# Altium integrated library Capacitor - Aluminium TH.IntLib: 4591 symbols (part 10 of 68)
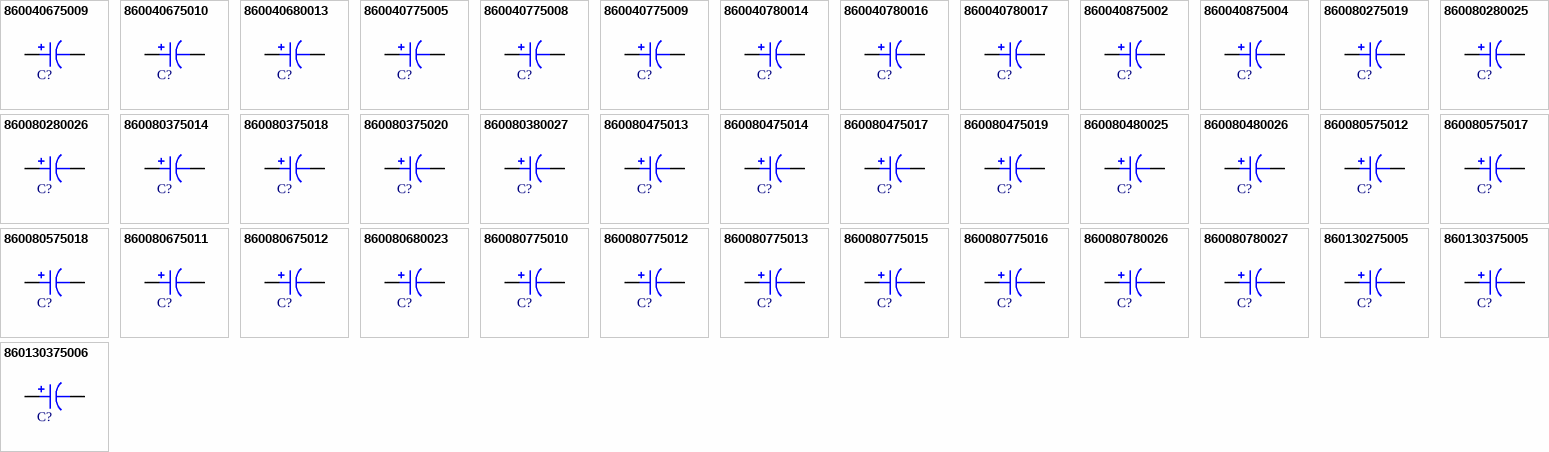
[diagram p123: symbols 860040675009 to 860130375006]

## 860080375020
designator C?, comment 1200uF  (value not drawn)
CAP ALUM 1200UF 20% 16V T/H; Part Number: 860080375020; Manufacturer: Wurth Electronics Inc; TemperatureRange: -55C ~ 105C; Type: Polar; Ripple Current: 1.92A @ 100kHz; Impedance: 32 mOhm; Value: 1200uF; PartId: 26032; Supplier 1: Digi-Key; Supplier Part Number 1: 732-9008-3-ND; ComponentLink1Description: Datasheet; ComponentLink1URL: http://katalog.we-online.de/pbs/datasheet/860080375020.pdf; ComponentLink2Description: Digi-Key Listing; ComponentLink2URL: https://www.digikey.com/product-detail/en/wurth-electronics-inc/860080375020/732-9008-3-ND/5727243; Tolerance: 20%; Voltage: 16V; Price: 0.4485; Device Package: Radial, Can, 10mm
footprint CAP AL TH D10 L5 H30
pins: 1, 2

## 860080380027
designator C?, comment 3900uF  (value not drawn)
CAP ALUM 3900UF 20% 16V T/H; Part Number: 860080380027; Manufacturer: Wurth Electronics Inc; TemperatureRange: -55C ~ 105C; Type: Polar; Ripple Current: 3.52A @ 100kHz; Impedance: 18 mOhm; Value: 3900uF; PartId: 26617; Supplier 1: Digi-Key; Supplier Part Number 1: 732-9015-3-ND; ComponentLink1Description: Datasheet; ComponentLink1URL: http://katalog.we-online.de/pbs/datasheet/860080380027.pdf; ComponentLink2Description: Digi-Key Listing; ComponentLink2URL: https://www.digikey.com/product-detail/en/wurth-electronics-inc/860080380027/732-9015-3-ND/5727250; Tolerance: 20%; Voltage: 16V; Price: 1.4025; Device Package: Radial, Can, 16mm
footprint CAP AL TH D16 L7.5 H26.5
pins: 1, 2

## 860080475013
designator C?, comment 330uF  (value not drawn)
CAP ALUM 330UF 20% 25V THRU HOLE; Part Number: 860080475013; Manufacturer: Wurth Electronics Inc; TemperatureRange: -55C ~ 105C; Type: Polar; Ripple Current: 1.01A @ 100kHz; Impedance: 54 mOhm; Value: 330uF; PartId: 24789; Supplier 1: Digi-Key; Supplier Part Number 1: 732-9029-1-ND; ComponentLink1Description: Datasheet; ComponentLink1URL: http://katalog.we-online.de/pbs/datasheet/860080475013.pdf; ComponentLink2Description: Digi-Key Listing; ComponentLink2URL: https://www.digikey.com/product-detail/en/wurth-electronics-inc/860080475013/732-9029-1-ND/5728972; Tolerance: 20%; Voltage: 25V; Price: 0.44; Device Package: Radial, Can, 10mm
footprint CAP AL TH D10 L5 H14.5
pins: 1, 2

## 860080475014
designator C?, comment 390uF  (value not drawn)
CAP ALUM 390UF 20% 25V THRU HOLE; Part Number: 860080475014; Manufacturer: Wurth Electronics Inc; TemperatureRange: -55C ~ 105C; Type: Polar; Ripple Current: 1.05A @ 100kHz; Impedance: 51 mOhm; Value: 390uF; PartId: 24662; Supplier 1: Digi-Key; Supplier Part Number 1: 732-9030-3-ND; ComponentLink1Description: Datasheet; ComponentLink1URL: http://katalog.we-online.de/pbs/datasheet/860080475014.pdf; ComponentLink2Description: Digi-Key Listing; ComponentLink2URL: https://www.digikey.com/product-detail/en/wurth-electronics-inc/860080475014/732-9030-3-ND/5727265; Tolerance: 20%; Voltage: 25V; Price: 0.2721; Device Package: Radial, Can, 10mm
footprint CAP AL TH D10 L5 H14.5
pins: 1, 2

## 860080475017
designator C?, comment 560uF  (value not drawn)
CAP ALUM 560UF 20% 25V THRU HOLE; Part Number: 860080475017; Manufacturer: Wurth Electronics Inc; TemperatureRange: -55C ~ 105C; Type: Polar; Ripple Current: 1.45A @ 100kHz; Impedance: 40 mOhm; Value: 560uF; PartId: 25487; Supplier 1: Digi-Key; Supplier Part Number 1: 732-9033-3-ND; ComponentLink1Description: Datasheet; ComponentLink1URL: http://katalog.we-online.de/pbs/datasheet/860080475017.pdf; ComponentLink2Description: Digi-Key Listing; ComponentLink2URL: https://www.digikey.com/product-detail/en/wurth-electronics-inc/860080475017/732-9033-3-ND/5727268; Tolerance: 20%; Voltage: 25V; Price: 0.3528; Device Package: Radial, Can, 10mm
footprint CAP AL TH D10 L5 H22
pins: 1, 2

## 860080475019
designator C?, comment 820uF  (value not drawn)
CAP ALUM 820UF 20% 25V THRU HOLE; Part Number: 860080475019; Manufacturer: Wurth Electronics Inc; TemperatureRange: -55C ~ 105C; Type: Polar; Ripple Current: 1.91A @ 100kHz; Impedance: 32 mOhm; Value: 820uF; PartId: 26036; Supplier 1: Digi-Key; Supplier Part Number 1: 732-9035-3-ND; ComponentLink1Description: Datasheet; ComponentLink1URL: http://katalog.we-online.de/pbs/datasheet/860080475019.pdf; ComponentLink2Description: Digi-Key Listing; ComponentLink2URL: https://www.digikey.com/product-detail/en/wurth-electronics-inc/860080475019/732-9035-3-ND/5727270; Tolerance: 20%; Voltage: 25V; Price: 0.4687; Device Package: Radial, Can, 10mm
footprint CAP AL TH D10 L5 H30
pins: 1, 2

## 860080480025
designator C?, comment 2700uF  (value not drawn)
CAP ALUM 2700UF 20% 25V T/H; Part Number: 860080480025; Manufacturer: Wurth Electronics Inc; TemperatureRange: -55C ~ 105C; Type: Polar; Ripple Current: 3.48A @ 100kHz; Impedance: 18 mOhm; Value: 2700uF; PartId: 27032; Supplier 1: Digi-Key; Supplier Part Number 1: 732-9041-3-ND; ComponentLink1Description: Datasheet; ComponentLink1URL: http://katalog.we-online.de/pbs/datasheet/860080480025.pdf; ComponentLink2Description: Digi-Key Listing; ComponentLink2URL: https://www.digikey.com/product-detail/en/wurth-electronics-inc/860080480025/732-9041-3-ND/5727276; Tolerance: 20%; Voltage: 25V; Price: 1.5062; Device Package: Radial, Can, 16mm
footprint CAP AL TH D16 L7.5 H33.5
pins: 1, 2

## 860080480026
designator C?, comment 3300uF  (value not drawn)
CAP ALUM 3300UF 20% 25V T/H; Part Number: 860080480026; Manufacturer: Wurth Electronics Inc; TemperatureRange: -55C ~ 105C; Type: Polar; Ripple Current: 3.6A @ 100kHz; Impedance: 18 mOhm; Value: 3300uF; PartId: 27104; Supplier 1: Digi-Key; Supplier Part Number 1: 732-9042-3-ND; ComponentLink1Description: Datasheet; ComponentLink1URL: http://katalog.we-online.de/pbs/datasheet/860080480026.pdf; ComponentLink2Description: Digi-Key Listing; ComponentLink2URL: https://www.digikey.com/product-detail/en/wurth-electronics-inc/860080480026/732-9042-3-ND/5727277; Tolerance: 20%; Voltage: 25V; Price: 1.7452; Device Package: Radial, Can, 16mm
footprint CAP AL TH D16 L7.5 H33.5
pins: 1, 2

## 860080575012
designator C?, comment 220uF  (value not drawn)
CAP ALUM 220UF 20% 35V THRU HOLE; Part Number: 860080575012; Manufacturer: Wurth Electronics Inc; TemperatureRange: -55C ~ 105C; Type: Polar; Ripple Current: 1.06A @ 100kHz; Impedance: 52 mOhm; Value: 220uF; PartId: 24841; Supplier 1: Digi-Key; Supplier Part Number 1: 732-9104-1-ND; ComponentLink1Description: Datasheet; ComponentLink1URL: http://katalog.we-online.de/pbs/datasheet/860080575012.pdf; ComponentLink2Description: Digi-Key Listing; ComponentLink2URL: https://www.digikey.com/product-detail/en/wurth-electronics-inc/860080575012/732-9104-1-ND/5729047; Tolerance: 20%; Voltage: 35V; Price: 0.46; Device Package: Radial, Can, 10mm
footprint CAP AL TH D10 L5 H14.5
pins: 1, 2

## 860080575017
designator C?, comment 470uF  (value not drawn)
CAP ALUM 470UF 20% 35V THRU HOLE; Part Number: 860080575017; Manufacturer: Wurth Electronics Inc; TemperatureRange: -55C ~ 105C; Type: Polar; Ripple Current: 1.85A @ 100kHz; Impedance: 34 mOhm; Value: 470uF; PartId: 25499; Supplier 1: Digi-Key; Supplier Part Number 1: 732-9109-3-ND; ComponentLink1Description: Datasheet; ComponentLink1URL: http://katalog.we-online.de/pbs/datasheet/860080575017.pdf; ComponentLink2Description: Digi-Key Listing; ComponentLink2URL: https://www.digikey.com/product-detail/en/wurth-electronics-inc/860080575017/732-9109-3-ND/5727344; Tolerance: 20%; Voltage: 35V; Price: 0.4611; Device Package: Radial, Can, 10mm
footprint CAP AL TH D10 L5 H22
pins: 1, 2

## 860080575018
designator C?, comment 560uF  (value not drawn)
CAP ALUM 560UF 20% 35V THRU HOLE; Part Number: 860080575018; Manufacturer: Wurth Electronics Inc; TemperatureRange: -55C ~ 105C; Type: Polar; Ripple Current: 2.04A @ 100kHz; Impedance: 31 mOhm; Value: 560uF; PartId: 26040; Supplier 1: Digi-Key; Supplier Part Number 1: 732-9110-3-ND; ComponentLink1Description: Datasheet; ComponentLink1URL: http://katalog.we-online.de/pbs/datasheet/860080575018.pdf; ComponentLink2Description: Digi-Key Listing; ComponentLink2URL: https://www.digikey.com/product-detail/en/wurth-electronics-inc/860080575018/732-9110-3-ND/5727345; Tolerance: 20%; Voltage: 35V; Price: 0.5115; Device Package: Radial, Can, 10mm
footprint CAP AL TH D10 L5 H30
pins: 1, 2

## 860080675011
designator C?, comment 120uF  (value not drawn)
CAP ALUM 120UF 20% 50V THRU HOLE; Part Number: 860080675011; Manufacturer: Wurth Electronics Inc; TemperatureRange: -55C ~ 105C; Type: Polar; Ripple Current: 790mA @ 100kHz; Impedance: 72 mOhm; Value: 120uF; PartId: 24839; Supplier 1: Digi-Key; Supplier Part Number 1: 732-9053-1-ND; ComponentLink1Description: Datasheet; ComponentLink1URL: http://katalog.we-online.de/pbs/datasheet/860080675011.pdf; ComponentLink2Description: Digi-Key Listing; ComponentLink2URL: https://www.digikey.com/product-detail/en/wurth-electronics-inc/860080675011/732-9053-1-ND/5728996; Tolerance: 20%; Voltage: 50V; Price: 0.46; Device Package: Radial, Can, 10mm
footprint CAP AL TH D10 L5 H14.5
pins: 1, 2

## 860080675012
designator C?, comment 150uF  (value not drawn)
CAP ALUM 150UF 20% 50V THRU HOLE; Part Number: 860080675012; Manufacturer: Wurth Electronics Inc; TemperatureRange: -55C ~ 105C; Type: Polar; Ripple Current: 870mA @ 100kHz; Impedance: 68 mOhm; Value: 150uF; PartId: 24663; Supplier 1: Digi-Key; Supplier Part Number 1: 732-9054-3-ND; ComponentLink1Description: Datasheet; ComponentLink1URL: http://katalog.we-online.de/pbs/datasheet/860080675012.pdf; ComponentLink2Description: Digi-Key Listing; ComponentLink2URL: https://www.digikey.com/product-detail/en/wurth-electronics-inc/860080675012/732-9054-3-ND/5727289; Tolerance: 20%; Voltage: 50V; Price: 0.2721; Device Package: Radial, Can, 10mm
footprint CAP AL TH D10 L5 H14.5
pins: 1, 2

## 860080680023
designator C?, comment 820uF  (value not drawn)
CAP ALUM 820UF 20% 50V THRU HOLE; Part Number: 860080680023; Manufacturer: Wurth Electronics Inc; TemperatureRange: -55C ~ 105C; Type: Polar; Ripple Current: 2.96A @ 100kHz; Impedance: 24 mOhm; Value: 820uF; PartId: 26618; Supplier 1: Digi-Key; Supplier Part Number 1: 732-9065-3-ND; ComponentLink1Description: Datasheet; ComponentLink1URL: http://katalog.we-online.de/pbs/datasheet/860080680023.pdf; ComponentLink2Description: Digi-Key Listing; ComponentLink2URL: https://www.digikey.com/product-detail/en/wurth-electronics-inc/860080680023/732-9065-3-ND/5727300; Tolerance: 20%; Voltage: 50V; Price: 1.4083; Device Package: Radial, Can, 16mm
footprint CAP AL TH D16 L7.5 H26.5
pins: 1, 2

## 860080775010
designator C?, comment 68uF  (value not drawn)
CAP ALUM 68UF 20% 63V THRU HOLE; Part Number: 860080775010; Manufacturer: Wurth Electronics Inc; TemperatureRange: -55C ~ 105C; Type: Polar; Ripple Current: 500mA @ 100kHz; Impedance: 200 mOhm; Value: 68uF; PartId: 24752; Supplier 1: Digi-Key; Supplier Part Number 1: 732-9130-1-ND; ComponentLink1Description: Datasheet; ComponentLink1URL: http://katalog.we-online.de/pbs/datasheet/860080775010.pdf; ComponentLink2Description: Digi-Key Listing; ComponentLink2URL: https://www.digikey.com/product-detail/en/wurth-electronics-inc/860080775010/732-9130-1-ND/5729073; Tolerance: 20%; Voltage: 63V; Price: 0.42; Device Package: Radial, Can, 10mm
footprint CAP AL TH D10 L5 H14.5
pins: 1, 2

## 860080775012
designator C?, comment 82uF  (value not drawn)
CAP ALUM 82UF 20% 63V THRU HOLE; Part Number: 860080775012; Manufacturer: Wurth Electronics Inc; TemperatureRange: -55C ~ 105C; Type: Polar; Ripple Current: 570mA @ 100kHz; Impedance: 160 mOhm; Value: 82uF; PartId: 24810; Supplier 1: Digi-Key; Supplier Part Number 1: 732-9132-1-ND; ComponentLink1Description: Datasheet; ComponentLink1URL: http://katalog.we-online.de/pbs/datasheet/860080775012.pdf; ComponentLink2Description: Digi-Key Listing; ComponentLink2URL: https://www.digikey.com/product-detail/en/wurth-electronics-inc/860080775012/732-9132-1-ND/5729075; Tolerance: 20%; Voltage: 63V; Price: 0.45; Device Package: Radial, Can, 10mm
footprint CAP AL TH D10 L5 H14.5
pins: 1, 2

## 860080775013
designator C?, comment 100uF  (value not drawn)
CAP ALUM 100UF 20% 63V THRU HOLE; Part Number: 860080775013; Manufacturer: Wurth Electronics Inc; TemperatureRange: -55C ~ 105C; Type: Polar; Ripple Current: 720mA @ 100kHz; Impedance: 140 mOhm; Value: 100uF; PartId: 24897; Supplier 1: Digi-Key; Supplier Part Number 1: 732-9133-1-ND; ComponentLink1Description: Datasheet; ComponentLink1URL: http://katalog.we-online.de/pbs/datasheet/860080775013.pdf; ComponentLink2Description: Digi-Key Listing; ComponentLink2URL: https://www.digikey.com/product-detail/en/wurth-electronics-inc/860080775013/732-9133-1-ND/5729076; Tolerance: 20%; Voltage: 63V; Price: 0.48; Device Package: Radial, Can, 10mm
footprint CAP AL TH D10 L5 H14.5
pins: 1, 2

## 860080775015
designator C?, comment 120uF  (value not drawn)
CAP ALUM 120UF 20% 63V THRU HOLE; Part Number: 860080775015; Manufacturer: Wurth Electronics Inc; TemperatureRange: -55C ~ 105C; Type: Polar; Ripple Current: 835mA @ 100kHz; Impedance: 130 mOhm; Value: 120uF; PartId: 25125; Supplier 1: Digi-Key; Supplier Part Number 1: 732-9135-3-ND; ComponentLink1Description: Datasheet; ComponentLink1URL: http://katalog.we-online.de/pbs/datasheet/860080775015.pdf; ComponentLink2Description: Digi-Key Listing; ComponentLink2URL: https://www.digikey.com/product-detail/en/wurth-electronics-inc/860080775015/732-9135-3-ND/5727370; Tolerance: 20%; Voltage: 63V; Price: 0.3376; Device Package: Radial, Can, 10mm
footprint CAP AL TH D10 L5 H17.5
pins: 1, 2

## 860080775016
designator C?, comment 150uF  (value not drawn)
CAP ALUM 150UF 20% 63V THRU HOLE; Part Number: 860080775016; Manufacturer: Wurth Electronics Inc; TemperatureRange: -55C ~ 105C; Type: Polar; Ripple Current: 900mA @ 100kHz; Impedance: 110 mOhm; Value: 150uF; PartId: 25130; Supplier 1: Digi-Key; Supplier Part Number 1: 732-9136-3-ND; ComponentLink1Description: Datasheet; ComponentLink1URL: http://katalog.we-online.de/pbs/datasheet/860080775016.pdf; ComponentLink2Description: Digi-Key Listing; ComponentLink2URL: https://www.digikey.com/product-detail/en/wurth-electronics-inc/860080775016/732-9136-3-ND/5727371; Tolerance: 20%; Voltage: 63V; Price: 0.3477; Device Package: Radial, Can, 10mm
footprint CAP AL TH D10 L5 H17.5
pins: 1, 2

## 860080780026
designator C?, comment 680uF  (value not drawn)
CAP ALUM 680UF 20% 63V THRU HOLE; Part Number: 860080780026; Manufacturer: Wurth Electronics Inc; TemperatureRange: -55C ~ 105C; Type: Polar; Ripple Current: 2.6A @ 100kHz; Impedance: 35 mOhm; Value: 680uF; PartId: 27026; Supplier 1: Digi-Key; Supplier Part Number 1: 732-9146-3-ND; ComponentLink1Description: Datasheet; ComponentLink1URL: http://katalog.we-online.de/pbs/datasheet/860080780026.pdf; ComponentLink2Description: Digi-Key Listing; ComponentLink2URL: https://www.digikey.com/product-detail/en/wurth-electronics-inc/860080780026/732-9146-3-ND/5727381; Tolerance: 20%; Voltage: 63V; Price: 1.486; Device Package: Radial, Can, 16mm
footprint CAP AL TH D16 L7.5 H33.5
pins: 1, 2

## 860080780027
designator C?, comment 820uF  (value not drawn)
CAP ALUM 820UF 20% 63V THRU HOLE; Part Number: 860080780027; Manufacturer: Wurth Electronics Inc; TemperatureRange: -55C ~ 105C; Type: Polar; Ripple Current: 2.65A @ 100kHz; Impedance: 31 mOhm; Value: 820uF; PartId: 27167; Supplier 1: Digi-Key; Supplier Part Number 1: 732-9147-3-ND; ComponentLink1Description: Datasheet; ComponentLink1URL: http://katalog.we-online.de/pbs/datasheet/860080780027.pdf; ComponentLink2Description: Digi-Key Listing; ComponentLink2URL: https://www.digikey.com/product-detail/en/wurth-electronics-inc/860080780027/732-9147-3-ND/5727382; Tolerance: 20%; Voltage: 63V; Price: 1.8892; Device Package: Radial, Can, 16mm
footprint CAP AL TH D16 L7.5 H33.5
pins: 1, 2

## 860130275005
designator C?, comment 470uF  (value not drawn)
CAP 470 UF 20% 10 V; Part Number: 860130275005; Manufacturer: Wurth Electronics Inc; TemperatureRange: -40C ~ 125C; Voltage: 10V; Type: Polar; Ripple Current: 505mA @ 120Hz; Value: 470uF; PartId: 24893; Supplier 1: Digi-Key; Supplier Part Number 1: 732-9367-1-ND; ComponentLink1Description: Datasheet; ComponentLink1URL: http://katalog.we-online.de/pbs/datasheet/860130275005.pdf; ComponentLink2Description: Digi-Key Listing; ComponentLink2URL: https://www.digikey.com/product-detail/en/wurth-electronics-inc/860130275005/732-9367-1-ND/5729305; Tolerance: 20%; Price: 0.48; Device Package: Radial, Can, 10mm
footprint CAP AL TH D10 L5 H14.5
pins: 1, 2

## 860130375005
designator C?, comment 220uF  (value not drawn)
CAP 220 UF 20% 16 V; Part Number: 860130375005; Manufacturer: Wurth Electronics Inc; TemperatureRange: -40C ~ 125C; Voltage: 16V; Type: Polar; Ripple Current: 400mA @ 120Hz; Value: 220uF; PartId: 24733; Supplier 1: Digi-Key; Supplier Part Number 1: 732-9338-1-ND; ComponentLink1Description: Datasheet; ComponentLink1URL: http://katalog.we-online.de/pbs/datasheet/860130375005.pdf; ComponentLink2Description: Digi-Key Listing; ComponentLink2URL: https://www.digikey.com/product-detail/en/wurth-electronics-inc/860130375005/732-9338-1-ND/5729276; Tolerance: 20%; Price: 0.41; Device Package: Radial, Can, 10mm
footprint CAP AL TH D10 L5 H14.5
pins: 1, 2

## 860130375006
designator C?, comment 330uF  (value not drawn)
CAP 330 UF 20% 16 V; Part Number: 860130375006; Manufacturer: Wurth Electronics Inc; TemperatureRange: -40C ~ 125C; Voltage: 16V; Type: Polar; Ripple Current: 470mA @ 120Hz; Value: 330uF; PartId: 24892; Supplier 1: Digi-Key; Supplier Part Number 1: 732-9339-1-ND; ComponentLink1Description: Datasheet; ComponentLink1URL: http://katalog.we-online.de/pbs/datasheet/860130375006.pdf; ComponentLink2Description: Digi-Key Listing; ComponentLink2URL: https://www.digikey.com/product-detail/en/wurth-electronics-inc/860130375006/732-9339-1-ND/5729277; Tolerance: 20%; Price: 0.48; Device Package: Radial, Can, 10mm
footprint CAP AL TH D10 L5 H14.5
pins: 1, 2

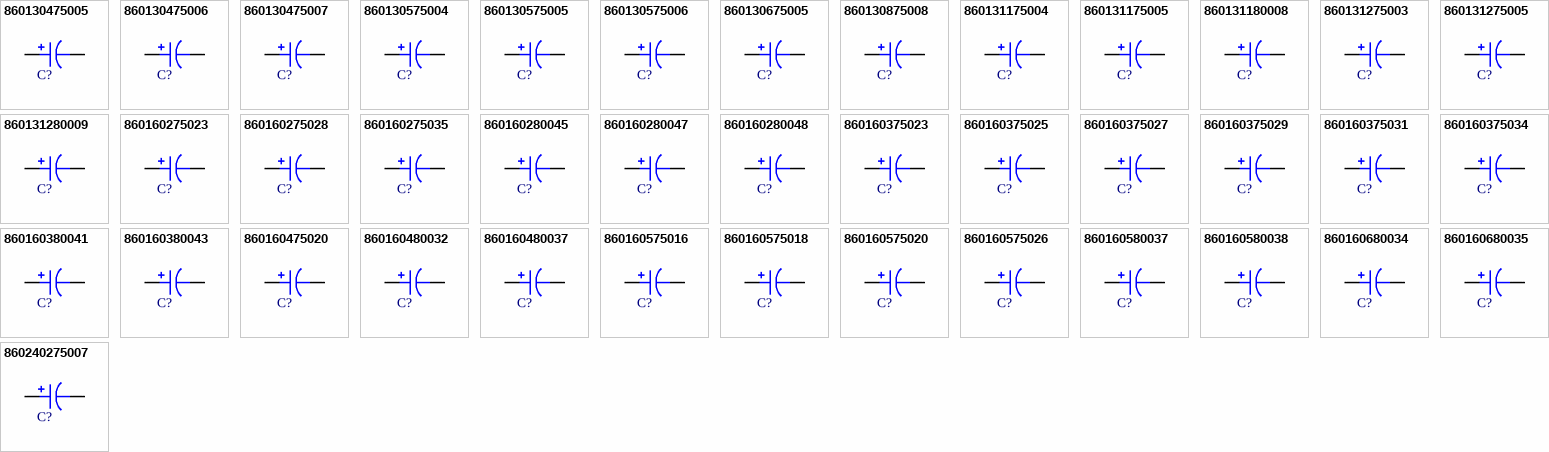
[diagram p16: symbols 860130475005 to 860240275007]

## 860130475005
designator C?, comment 100uF  (value not drawn)
CAP 100 UF 20% 25 V; Part Number: 860130475005; Manufacturer: Wurth Electronics Inc; TemperatureRange: -40C ~ 125C; Voltage: 25V; Type: Polar; Ripple Current: 250mA @ 120Hz; Value: 100uF; PartId: 24718; Supplier 1: Digi-Key; Supplier Part Number 1: 732-9347-1-ND; ComponentLink1Description: Datasheet; ComponentLink1URL: http://katalog.we-online.de/pbs/datasheet/860130475005.pdf; ComponentLink2Description: Digi-Key Listing; ComponentLink2URL: https://www.digikey.com/product-detail/en/wurth-electronics-inc/860130475005/732-9347-1-ND/5729285; Tolerance: 20%; Price: 0.4; Device Package: Radial, Can, 10mm
footprint CAP AL TH D10 L5 H14.5
pins: 1, 2

## 860130475006
designator C?, comment 220uF  (value not drawn)
CAP 220 UF 20% 25 V; Part Number: 860130475006; Manufacturer: Wurth Electronics Inc; TemperatureRange: -40C ~ 125C; Voltage: 25V; Type: Polar; Ripple Current: 420mA @ 100kHz; Value: 220uF; PartId: 24809; Supplier 1: Digi-Key; Supplier Part Number 1: 732-9348-1-ND; ComponentLink1Description: Datasheet; ComponentLink1URL: http://katalog.we-online.de/pbs/datasheet/860130475006.pdf; ComponentLink2Description: Digi-Key Listing; ComponentLink2URL: https://www.digikey.com/product-detail/en/wurth-electronics-inc/860130475006/732-9348-1-ND/5729286; Tolerance: 20%; Price: 0.45; Device Package: Radial, Can, 10mm
footprint CAP AL TH D10 L5 H14.5
pins: 1, 2

## 860130475007
designator C?, comment 330uF  (value not drawn)
CAP 330 UF 20% 25 V; Part Number: 860130475007; Manufacturer: Wurth Electronics Inc; TemperatureRange: -40C ~ 125C; Voltage: 25V; Type: Polar; Ripple Current: 570mA @ 120Hz; Value: 330uF; PartId: 25126; Supplier 1: Digi-Key; Supplier Part Number 1: 732-9349-3-ND; ComponentLink1Description: Datasheet; ComponentLink1URL: http://katalog.we-online.de/pbs/datasheet/860130475007.pdf; ComponentLink2Description: Digi-Key Listing; ComponentLink2URL: https://www.digikey.com/product-detail/en/wurth-electronics-inc/860130475007/732-9349-3-ND/5727579; Tolerance: 20%; Price: 0.3376; Device Package: Radial, Can, 10mm
footprint CAP AL TH D10 L5 H17.5
pins: 1, 2

## 860130575004
designator C?, comment 100uF  (value not drawn)
CAP 100 UF 20% 35 V; Part Number: 860130575004; Manufacturer: Wurth Electronics Inc; TemperatureRange: -40C ~ 125C; Voltage: 35V; Type: Polar; Ripple Current: 230mA @ 120Hz; Value: 100uF; PartId: 24956; Supplier 1: Digi-Key; Supplier Part Number 1: 732-9372-1-ND; ComponentLink1Description: Datasheet; ComponentLink1URL: http://katalog.we-online.de/pbs/datasheet/860130575004.pdf; ComponentLink2Description: Digi-Key Listing; ComponentLink2URL: https://www.digikey.com/product-detail/en/wurth-electronics-inc/860130575004/732-9372-1-ND/5729310; Tolerance: 20%; Price: 0.52; Device Package: Radial, Can, 10mm
footprint CAP AL TH D10 L5 H14.5
pins: 1, 2

## 860130575005
designator C?, comment 220uF  (value not drawn)
CAP 220 UF 20% 35 V; Part Number: 860130575005; Manufacturer: Wurth Electronics Inc; TemperatureRange: -40C ~ 125C; Voltage: 35V; Type: Polar; Ripple Current: 480mA @ 120Hz; Value: 220uF; PartId: 25124; Supplier 1: Digi-Key; Supplier Part Number 1: 732-9373-3-ND; ComponentLink1Description: Datasheet; ComponentLink1URL: http://katalog.we-online.de/pbs/datasheet/860130575005.pdf; ComponentLink2Description: Digi-Key Listing; ComponentLink2URL: https://www.digikey.com/product-detail/en/wurth-electronics-inc/860130575005/732-9373-3-ND/5727603; Tolerance: 20%; Price: 0.3351; Device Package: Radial, Can, 10mm
footprint CAP AL TH D10 L5 H17.5
pins: 1, 2

## 860130575006
designator C?, comment 330uF  (value not drawn)
CAP 330 UF 20% 35 V; Part Number: 860130575006; Manufacturer: Wurth Electronics Inc; TemperatureRange: -40C ~ 125C; Voltage: 35V; Type: Polar; Ripple Current: 680mA @ 120Hz; Value: 330uF; PartId: 26042; Supplier 1: Digi-Key; Supplier Part Number 1: 732-9374-3-ND; ComponentLink1Description: Datasheet; ComponentLink1URL: http://katalog.we-online.de/pbs/datasheet/860130575006.pdf; ComponentLink2Description: Digi-Key Listing; ComponentLink2URL: https://www.digikey.com/product-detail/en/wurth-electronics-inc/860130575006/732-9374-3-ND/5727604; Tolerance: 20%; Price: 0.5443; Device Package: Radial, Can, 10mm
footprint CAP AL TH D10 L5 H30
pins: 1, 2

## 860130675005
designator C?, comment 47uF  (value not drawn)
CAP 47 UF 20% 50 V; Part Number: 860130675005; Manufacturer: Wurth Electronics Inc; TemperatureRange: -40C ~ 125C; Voltage: 50V; Type: Polar; Ripple Current: 164mA @ 120Hz; Value: 47uF; PartId: 24737; Supplier 1: Digi-Key; Supplier Part Number 1: 732-9357-1-ND; ComponentLink1Description: Datasheet; ComponentLink1URL: http://katalog.we-online.de/pbs/datasheet/860130675005.pdf; ComponentLink2Description: Digi-Key Listing; ComponentLink2URL: https://www.digikey.com/product-detail/en/wurth-electronics-inc/860130675005/732-9357-1-ND/5729295; Tolerance: 20%; Price: 0.41; Device Package: Radial, Can, 10mm
footprint CAP AL TH D10 L5 H14.5
pins: 1, 2

## 860130875008
designator C?, comment 33uF  (value not drawn)
CAP 33 UF 20% 100 V; Part Number: 860130875008; Manufacturer: Wurth Electronics Inc; TemperatureRange: -40C ~ 125C; Voltage: 100V; Type: Polar; Ripple Current: 140mA @ 120Hz; Value: 33uF; PartId: 25195; Supplier 1: Digi-Key; Supplier Part Number 1: 732-9385-3-ND; ComponentLink1Description: Datasheet; ComponentLink1URL: http://katalog.we-online.de/pbs/datasheet/860130875008.pdf; ComponentLink2Description: Digi-Key Listing; ComponentLink2URL: https://www.digikey.com/product-detail/en/wurth-electronics-inc/860130875008/732-9385-3-ND/5727615; Tolerance: 20%; Price: 0.4939; Device Package: Radial, Can, 10mm
footprint CAP AL TH D10 L5 H17.5
pins: 1, 2

## 860131175004
designator C?, comment 4.7uF  (value not drawn)
CAP 4.7 UF 20% 250 V; Part Number: 860131175004; Manufacturer: Wurth Electronics Inc; TemperatureRange: -25C ~ 125C; Voltage: 250V; Type: Polar; Ripple Current: 60mA @ 120Hz; Value: 4.7uF; PartId: 24811; Supplier 1: Digi-Key; Supplier Part Number 1: 732-9392-1-ND; ComponentLink1Description: Datasheet; ComponentLink1URL: http://katalog.we-online.de/pbs/datasheet/860131175004.pdf; ComponentLink2Description: Digi-Key Listing; ComponentLink2URL: https://www.digikey.com/product-detail/en/wurth-electronics-inc/860131175004/732-9392-1-ND/5729330; Tolerance: 20%; Price: 0.45; Device Package: Radial, Can, 10mm
footprint CAP AL TH D10 L5 H14.5
pins: 1, 2

## 860131175005
designator C?, comment 10uF  (value not drawn)
CAP 10 UF 20% 250 V; Part Number: 860131175005; Manufacturer: Wurth Electronics Inc; TemperatureRange: -25C ~ 125C; Voltage: 250V; Type: Polar; Ripple Current: 83mA @ 120Hz; Value: 10uF; PartId: 25134; Supplier 1: Digi-Key; Supplier Part Number 1: 732-9393-3-ND; ComponentLink1Description: Datasheet; ComponentLink1URL: http://katalog.we-online.de/pbs/datasheet/860131175005.pdf; ComponentLink2Description: Digi-Key Listing; ComponentLink2URL: https://www.digikey.com/product-detail/en/wurth-electronics-inc/860131175005/732-9393-3-ND/5727623; Tolerance: 20%; Price: 0.3578; Device Package: Radial, Can, 10mm
footprint CAP AL TH D10 L5 H17.5
pins: 1, 2

## 860131180008
designator C?, comment 47uF  (value not drawn)
CAP 47 UF 20% 250 V; Part Number: 860131180008; Manufacturer: Wurth Electronics Inc; TemperatureRange: -25C ~ 125C; Voltage: 250V; Type: Polar; Ripple Current: 205mA @ 120Hz; Value: 47uF; PartId: 26715; Supplier 1: Digi-Key; Supplier Part Number 1: 732-9396-3-ND; ComponentLink1Description: Datasheet; ComponentLink1URL: http://katalog.we-online.de/pbs/datasheet/860131180008.pdf; ComponentLink2Description: Digi-Key Listing; ComponentLink2URL: https://www.digikey.com/product-detail/en/wurth-electronics-inc/860131180008/732-9396-3-ND/5727626; Tolerance: 20%; Price: 2.5171; Device Package: Radial, Can, 16mm
footprint CAP AL TH D16 L7.5 H26.5
pins: 1, 2

## 860131275003
designator C?, comment 3.3uF  (value not drawn)
CAP 3.3 UF 20% 350 V; Part Number: 860131275003; Manufacturer: Wurth Electronics Inc; TemperatureRange: -25C ~ 125C; Voltage: 350V; Type: Polar; Ripple Current: 56mA @ 120Hz; Value: 3.3uF; PartId: 24699; Supplier 1: Digi-Key; Supplier Part Number 1: 732-9399-3-ND; ComponentLink1Description: Datasheet; ComponentLink1URL: http://katalog.we-online.de/pbs/datasheet/860131275003.pdf; ComponentLink2Description: Digi-Key Listing; ComponentLink2URL: https://www.digikey.com/product-detail/en/wurth-electronics-inc/860131275003/732-9399-3-ND/5727629; Tolerance: 20%; Price: 0.3729; Device Package: Radial, Can, 10mm
footprint CAP AL TH D10 L5 H14.5
pins: 1, 2

## 860131275005
designator C?, comment 10uF  (value not drawn)
CAP 10 UF 20% 350 V; Part Number: 860131275005; Manufacturer: Wurth Electronics Inc; TemperatureRange: -25C ~ 125C; Voltage: 350V; Type: Polar; Ripple Current: 105mA @ 120Hz; Value: 10uF; PartId: 26108; Supplier 1: Digi-Key; Supplier Part Number 1: 732-9401-3-ND; ComponentLink1Description: Datasheet; ComponentLink1URL: http://katalog.we-online.de/pbs/datasheet/860131275005.pdf; ComponentLink2Description: Digi-Key Listing; ComponentLink2URL: https://www.digikey.com/product-detail/en/wurth-electronics-inc/860131275005/732-9401-3-ND/5727631; Tolerance: 20%; Price: 0.7686; Device Package: Radial, Can, 10mm
footprint CAP AL TH D10 L5 H30
pins: 1, 2

## 860131280009
designator C?, comment 47uF  (value not drawn)
CAP 47 UF 20% 350 V; Part Number: 860131280009; Manufacturer: Wurth Electronics Inc; TemperatureRange: -25C ~ 125C; Voltage: 350V; Type: Polar; Ripple Current: 230mA @ 120Hz; Value: 47uF; PartId: 27243; Supplier 1: Digi-Key; Supplier Part Number 1: 732-9405-3-ND; ComponentLink1Description: Datasheet; ComponentLink1URL: http://katalog.we-online.de/pbs/datasheet/860131280009.pdf; ComponentLink2Description: Digi-Key Listing; ComponentLink2URL: https://www.digikey.com/product-detail/en/wurth-electronics-inc/860131280009/732-9405-3-ND/5727635; Tolerance: 20%; Price: 2.5689; Device Package: Radial, Can, 16mm
footprint CAP AL TH D16 L7.5 H33.5
pins: 1, 2

## 860160275023
designator C?, comment 560uF  (value not drawn)
CAP 560 UF 20% 10 V; Part Number: 860160275023; Manufacturer: Wurth Electronics Inc; TemperatureRange: -55C ~ 105C; Voltage: 10V; Type: Polar; Ripple Current: 636mA @ 100kHz; Impedance: 250 mOhm; Value: 560uF; PartId: 24914; Supplier 1: Digi-Key; Supplier Part Number 1: 732-9428-1-ND; ComponentLink1Description: Datasheet; ComponentLink1URL: http://katalog.we-online.de/pbs/datasheet/860160275023.pdf; ComponentLink2Description: Digi-Key Listing; ComponentLink2URL: https://www.digikey.com/product-detail/en/wurth-electronics-inc/860160275023/732-9428-1-ND/5729366; Tolerance: 20%; Price: 0.49; Device Package: Radial, Can, 10mm
footprint CAP AL TH D10 L5 H14.5
pins: 1, 2

## 860160275028
designator C?, comment 820uF  (value not drawn)
CAP 820 UF 20% 10 V; Part Number: 860160275028; Manufacturer: Wurth Electronics Inc; TemperatureRange: -55C ~ 105C; Voltage: 10V; Type: Polar; Ripple Current: 936mA @ 100kHz; Impedance: 160 mOhm; Value: 820uF; PartId: 25140; Supplier 1: Digi-Key; Supplier Part Number 1: 732-9433-3-ND; ComponentLink1Description: Datasheet; ComponentLink1URL: http://katalog.we-online.de/pbs/datasheet/860160275028.pdf; ComponentLink2Description: Digi-Key Listing; ComponentLink2URL: https://www.digikey.com/product-detail/en/wurth-electronics-inc/860160275028/732-9433-3-ND/5727663; Tolerance: 20%; Price: 0.378; Device Package: Radial, Can, 10mm
footprint CAP AL TH D10 L5 H17.5
pins: 1, 2

## 860160275035
designator C?, comment 1800uF  (value not drawn)
CAP 1800 UF 20% 10 V; Part Number: 860160275035; Manufacturer: Wurth Electronics Inc; TemperatureRange: -55C ~ 105C; Voltage: 10V; Type: Polar; Ripple Current: 1.65A @ 100kHz; Impedance: 102 mOhm; Value: 1800uF; PartId: 26047; Supplier 1: Digi-Key; Supplier Part Number 1: 732-9440-3-ND; ComponentLink1Description: Datasheet; ComponentLink1URL: http://katalog.we-online.de/pbs/datasheet/860160275035.pdf; ComponentLink2Description: Digi-Key Listing; ComponentLink2URL: https://www.digikey.com/product-detail/en/wurth-electronics-inc/860160275035/732-9440-3-ND/5727670; Tolerance: 20%; Price: 0.6174; Device Package: Radial, Can, 10mm
footprint CAP AL TH D10 L5 H30
pins: 1, 2

## 860160280045
designator C?, comment 4700uF  (value not drawn)
CAP 4700 UF 20% 10 V; Part Number: 860160280045; Manufacturer: Wurth Electronics Inc; TemperatureRange: -55C ~ 105C; Voltage: 10V; Type: Polar; Ripple Current: 2.634A @ 100kHz; Impedance: 57 mOhm; Value: 4700uF; PartId: 26696; Supplier 1: Digi-Key; Supplier Part Number 1: 732-9450-3-ND; ComponentLink1Description: Datasheet; ComponentLink1URL: http://katalog.we-online.de/pbs/datasheet/860160280045.pdf; ComponentLink2Description: Digi-Key Listing; ComponentLink2URL: https://www.digikey.com/product-detail/en/wurth-electronics-inc/860160280045/732-9450-3-ND/5727680; Tolerance: 20%; Price: 1.8979; Device Package: Radial, Can, 16mm
footprint CAP AL TH D16 L7.5 H26.5
pins: 1, 2

## 860160280047
designator C?, comment 5600uF  (value not drawn)
CAP 5600 UF 20% 10 V; Part Number: 860160280047; Manufacturer: Wurth Electronics Inc; TemperatureRange: -55C ~ 105C; Voltage: 10V; Type: Polar; Ripple Current: 2.736A @ 100kHz; Impedance: 50 mOhm; Value: 5600uF; PartId: 27256; Supplier 1: Digi-Key; Supplier Part Number 1: 732-9452-3-ND; ComponentLink1Description: Datasheet; ComponentLink1URL: http://katalog.we-online.de/pbs/datasheet/860160280047.pdf; ComponentLink2Description: Digi-Key Listing; ComponentLink2URL: https://www.digikey.com/product-detail/en/wurth-electronics-inc/860160280047/732-9452-3-ND/5727682; Tolerance: 20%; Price: 2.7331; Device Package: Radial, Can, 16mm
footprint CAP AL TH D16 L7.5 H33.5
pins: 1, 2

## 860160280048
designator C?, comment 6800uF  (value not drawn)
CAP 6800 UF 20% 10 V; Part Number: 860160280048; Manufacturer: Wurth Electronics Inc; TemperatureRange: -55C ~ 105C; Voltage: 10V; Type: Polar; Ripple Current: 2.964A @ 100kHz; Impedance: 46 mOhm; Value: 6800uF; PartId: 27288; Supplier 1: Digi-Key; Supplier Part Number 1: 732-9453-3-ND; ComponentLink1Description: Datasheet; ComponentLink1URL: http://katalog.we-online.de/pbs/datasheet/860160280048.pdf; ComponentLink2Description: Digi-Key Listing; ComponentLink2URL: https://www.digikey.com/product-detail/en/wurth-electronics-inc/860160280048/732-9453-3-ND/5727683; Tolerance: 20%; Price: 3.2803; Device Package: Radial, Can, 16mm
footprint CAP AL TH D16 L7.5 H33.5
pins: 1, 2

## 860160375023
designator C?, comment 390uF  (value not drawn)
CAP 390 UF 20% 16 V; Part Number: 860160375023; Manufacturer: Wurth Electronics Inc; TemperatureRange: -55C ~ 105C; Voltage: 16V; Type: Polar; Ripple Current: 648mA @ 100kHz; Impedance: 330 mOhm; Value: 390uF; PartId: 24891; Supplier 1: Digi-Key; Supplier Part Number 1: 732-9476-1-ND; ComponentLink1Description: Datasheet; ComponentLink1URL: http://katalog.we-online.de/pbs/datasheet/860160375023.pdf; ComponentLink2Description: Digi-Key Listing; ComponentLink2URL: https://www.digikey.com/product-detail/en/wurth-electronics-inc/860160375023/732-9476-1-ND/5729414; Tolerance: 20%; Price: 0.48; Device Package: Radial, Can, 10mm
footprint CAP AL TH D10 L5 H14.5
pins: 1, 2

## 860160375025
designator C?, comment 470uF  (value not drawn)
CAP 470 UF 20% 16 V; Part Number: 860160375025; Manufacturer: Wurth Electronics Inc; TemperatureRange: -55C ~ 105C; Voltage: 16V; Type: Polar; Ripple Current: 882mA @ 100kHz; Impedance: 280 mOhm; Value: 470uF; PartId: 24981; Supplier 1: Digi-Key; Supplier Part Number 1: 732-9478-1-ND; ComponentLink1Description: Datasheet; ComponentLink1URL: http://katalog.we-online.de/pbs/datasheet/860160375025.pdf; ComponentLink2Description: Digi-Key Listing; ComponentLink2URL: https://www.digikey.com/product-detail/en/wurth-electronics-inc/860160375025/732-9478-1-ND/5729416; Tolerance: 20%; Price: 0.54; Device Package: Radial, Can, 10mm
footprint CAP AL TH D10 L5 H14.5
pins: 1, 2

## 860160375027
designator C?, comment 560uF  (value not drawn)
CAP 560 UF 20% 16 V; Part Number: 860160375027; Manufacturer: Wurth Electronics Inc; TemperatureRange: -55C ~ 105C; Voltage: 16V; Type: Polar; Ripple Current: 882mA @ 100kHz; Impedance: 240 mOhm; Value: 560uF; PartId: 24680; Supplier 1: Digi-Key; Supplier Part Number 1: 732-9480-3-ND; ComponentLink1Description: Datasheet; ComponentLink1URL: http://katalog.we-online.de/pbs/datasheet/860160375027.pdf; ComponentLink2Description: Digi-Key Listing; ComponentLink2URL: https://www.digikey.com/product-detail/en/wurth-electronics-inc/860160375027/732-9480-3-ND/5727710; Tolerance: 20%; Price: 0.3276; Device Package: Radial, Can, 10mm
footprint CAP AL TH D10 L5 H14.5
pins: 1, 2

## 860160375029
designator C?, comment 680uF  (value not drawn)
CAP 680 UF 20% 16 V; Part Number: 860160375029; Manufacturer: Wurth Electronics Inc; TemperatureRange: -55C ~ 105C; Voltage: 16V; Type: Polar; Ripple Current: 1.044A @ 100kHz; Impedance: 180 mOhm; Value: 680uF; PartId: 25137; Supplier 1: Digi-Key; Supplier Part Number 1: 732-9482-3-ND; ComponentLink1Description: Datasheet; ComponentLink1URL: http://katalog.we-online.de/pbs/datasheet/860160375029.pdf; ComponentLink2Description: Digi-Key Listing; ComponentLink2URL: https://www.digikey.com/product-detail/en/wurth-electronics-inc/860160375029/732-9482-3-ND/5727712; Tolerance: 20%; Price: 0.3729; Device Package: Radial, Can, 10mm
footprint CAP AL TH D10 L5 H17.5
pins: 1, 2

## 860160375031
designator C?, comment 820uF  (value not drawn)
CAP 820 UF 20% 16 V; Part Number: 860160375031; Manufacturer: Wurth Electronics Inc; TemperatureRange: -55C ~ 105C; Voltage: 16V; Type: Polar; Ripple Current: 1.254A @ 100kHz; Impedance: 150 mOhm; Value: 820uF; PartId: 25143; Supplier 1: Digi-Key; Supplier Part Number 1: 732-9484-3-ND; ComponentLink1Description: Datasheet; ComponentLink1URL: http://katalog.we-online.de/pbs/datasheet/860160375031.pdf; ComponentLink2Description: Digi-Key Listing; ComponentLink2URL: https://www.digikey.com/product-detail/en/wurth-electronics-inc/860160375031/732-9484-3-ND/5727714; Tolerance: 20%; Price: 0.4032; Device Package: Radial, Can, 10mm
footprint CAP AL TH D10 L5 H17.5
pins: 1, 2

## 860160375034
designator C?, comment 1500uF  (value not drawn)
CAP 1500 UF 20% 16 V; Part Number: 860160375034; Manufacturer: Wurth Electronics Inc; TemperatureRange: -55C ~ 105C; Voltage: 16V; Type: Polar; Ripple Current: 1.62A @ 100kHz; Impedance: 96 mOhm; Value: 1500uF; PartId: 26083; Supplier 1: Digi-Key; Supplier Part Number 1: 732-9487-3-ND; ComponentLink1Description: Datasheet; ComponentLink1URL: http://katalog.we-online.de/pbs/datasheet/860160375034.pdf; ComponentLink2Description: Digi-Key Listing; ComponentLink2URL: https://www.digikey.com/product-detail/en/wurth-electronics-inc/860160375034/732-9487-3-ND/5727717; Tolerance: 20%; Price: 0.7207; Device Package: Radial, Can, 10mm
footprint CAP AL TH D10 L5 H30
pins: 1, 2

## 860160380041
designator C?, comment 3300uF  (value not drawn)
CAP 3300 UF 20% 16 V; Part Number: 860160380041; Manufacturer: Wurth Electronics Inc; TemperatureRange: -55C ~ 105C; Voltage: 16V; Type: Polar; Ripple Current: 2.7A @ 100kHz; Impedance: 64 mOhm; Value: 3300uF; PartId: 26598; Supplier 1: Digi-Key; Supplier Part Number 1: 732-9494-3-ND; ComponentLink1Description: Datasheet; ComponentLink1URL: http://katalog.we-online.de/pbs/datasheet/860160380041.pdf; ComponentLink2Description: Digi-Key Listing; ComponentLink2URL: https://www.digikey.com/product-detail/en/wurth-electronics-inc/860160380041/732-9494-3-ND/5727724; Tolerance: 20%; Price: 1.3248; Device Package: Radial, Can, 16mm
footprint CAP AL TH D16 L7.5 H26.5
pins: 1, 2

## 860160380043
designator C?, comment 3900uF  (value not drawn)
CAP 3900 UF 20% 16 V; Part Number: 860160380043; Manufacturer: Wurth Electronics Inc; TemperatureRange: -55C ~ 105C; Voltage: 16V; Type: Polar; Ripple Current: 2.736A @ 100kHz; Impedance: 60 mOhm; Value: 3900uF; PartId: 26687; Supplier 1: Digi-Key; Supplier Part Number 1: 732-9496-3-ND; ComponentLink1Description: Datasheet; ComponentLink1URL: http://katalog.we-online.de/pbs/datasheet/860160380043.pdf; ComponentLink2Description: Digi-Key Listing; ComponentLink2URL: https://www.digikey.com/product-detail/en/wurth-electronics-inc/860160380043/732-9496-3-ND/5727726; Tolerance: 20%; Price: 1.8173; Device Package: Radial, Can, 16mm
footprint CAP AL TH D16 L7.5 H26.5
pins: 1, 2

## 860160475020
designator C?, comment 330uF  (value not drawn)
CAP 330 UF 20% 25 V; Part Number: 860160475020; Manufacturer: Wurth Electronics Inc; TemperatureRange: -55C ~ 105C; Voltage: 25V; Type: Polar; Ripple Current: 924mA @ 100kHz; Impedance: 240 mOhm; Value: 330uF; PartId: 24943; Supplier 1: Digi-Key; Supplier Part Number 1: 732-9520-1-ND; ComponentLink1Description: Datasheet; ComponentLink1URL: http://katalog.we-online.de/pbs/datasheet/860160475020.pdf; ComponentLink2Description: Digi-Key Listing; ComponentLink2URL: https://www.digikey.com/product-detail/en/wurth-electronics-inc/860160475020/732-9520-1-ND/5729458; Tolerance: 20%; Price: 0.51; Device Package: Radial, Can, 10mm
footprint CAP AL TH D10 L5 H14.5
pins: 1, 2

## 860160480032
designator C?, comment 1800uF  (value not drawn)
CAP 1800 UF 20% 25 V; Part Number: 860160480032; Manufacturer: Wurth Electronics Inc; TemperatureRange: -55C ~ 105C; Voltage: 25V; Type: Polar; Ripple Current: 2.34A @ 100kHz; Impedance: 58 mOhm; Value: 1800uF; PartId: 26647; Supplier 1: Digi-Key; Supplier Part Number 1: 732-9532-3-ND; ComponentLink1Description: Datasheet; ComponentLink1URL: http://katalog.we-online.de/pbs/datasheet/860160480032.pdf; ComponentLink2Description: Digi-Key Listing; ComponentLink2URL: https://www.digikey.com/product-detail/en/wurth-electronics-inc/860160480032/732-9532-3-ND/5727762; Tolerance: 20%; Price: 1.5321; Device Package: Radial, Can, 16mm
footprint CAP AL TH D16 L7.5 H26.5
pins: 1, 2

## 860160480037
designator C?, comment 3300uF  (value not drawn)
CAP 3300 UF 20% 25 V; Part Number: 860160480037; Manufacturer: Wurth Electronics Inc; TemperatureRange: -55C ~ 105C; Voltage: 25V; Type: Polar; Ripple Current: 3.204A @ 100kHz; Impedance: 38 mOhm; Value: 3300uF; PartId: 27236; Supplier 1: Digi-Key; Supplier Part Number 1: 732-9537-3-ND; ComponentLink1Description: Datasheet; ComponentLink1URL: http://katalog.we-online.de/pbs/datasheet/860160480037.pdf; ComponentLink2Description: Digi-Key Listing; ComponentLink2URL: https://www.digikey.com/product-detail/en/wurth-electronics-inc/860160480037/732-9537-3-ND/5727767; Tolerance: 20%; Price: 2.4998; Device Package: Radial, Can, 16mm
footprint CAP AL TH D16 L7.5 H33.5
pins: 1, 2

## 860160575016
designator C?, comment 150uF  (value not drawn)
CAP 150 UF 20% 35 V; Part Number: 860160575016; Manufacturer: Wurth Electronics Inc; TemperatureRange: -55C ~ 105C; Voltage: 35V; Type: Polar; Ripple Current: 720mA @ 100kHz; Impedance: 350 mOhm; Value: 150uF; PartId: 24970; Supplier 1: Digi-Key; Supplier Part Number 1: 732-9554-1-ND; ComponentLink1Description: Datasheet; ComponentLink1URL: http://katalog.we-online.de/pbs/datasheet/860160575016.pdf; ComponentLink2Description: Digi-Key Listing; ComponentLink2URL: https://www.digikey.com/product-detail/en/wurth-electronics-inc/860160575016/732-9554-1-ND/5729492; Tolerance: 20%; Price: 0.53; Device Package: Radial, Can, 10mm
footprint CAP AL TH D10 L5 H14.5
pins: 1, 2

## 860160575018
designator C?, comment 180uF  (value not drawn)
CAP 180 UF 20% 35 V; Part Number: 860160575018; Manufacturer: Wurth Electronics Inc; TemperatureRange: -55C ~ 105C; Voltage: 35V; Type: Polar; Ripple Current: 804mA @ 100kHz; Impedance: 320 mOhm; Value: 180uF; PartId: 24673; Supplier 1: Digi-Key; Supplier Part Number 1: 732-9556-3-ND; ComponentLink1Description: Datasheet; ComponentLink1URL: http://katalog.we-online.de/pbs/datasheet/860160575018.pdf; ComponentLink2Description: Digi-Key Listing; ComponentLink2URL: https://www.digikey.com/product-detail/en/wurth-electronics-inc/860160575018/732-9556-3-ND/5727786; Tolerance: 20%; Price: 0.3099; Device Package: Radial, Can, 10mm
footprint CAP AL TH D10 L5 H14.5
pins: 1, 2

## 860160575020
designator C?, comment 220uF  (value not drawn)
CAP 220 UF 20% 35 V; Part Number: 860160575020; Manufacturer: Wurth Electronics Inc; TemperatureRange: -55C ~ 105C; Voltage: 35V; Type: Polar; Ripple Current: 888mA @ 100kHz; Impedance: 240 mOhm; Value: 220uF; PartId: 24971; Supplier 1: Digi-Key; Supplier Part Number 1: 732-9558-1-ND; ComponentLink1Description: Datasheet; ComponentLink1URL: http://katalog.we-online.de/pbs/datasheet/860160575020.pdf; ComponentLink2Description: Digi-Key Listing; ComponentLink2URL: https://www.digikey.com/product-detail/en/wurth-electronics-inc/860160575020/732-9558-1-ND/5729496; Tolerance: 20%; Price: 0.53; Device Package: Radial, Can, 10mm
footprint CAP AL TH D10 L5 H14.5
pins: 1, 2

## 860160575026
designator C?, comment 560uF  (value not drawn)
CAP 560 UF 20% 35 V; Part Number: 860160575026; Manufacturer: Wurth Electronics Inc; TemperatureRange: -55C ~ 105C; Voltage: 35V; Type: Polar; Ripple Current: 1.572A @ 100kHz; Impedance: 96 mOhm; Value: 560uF; PartId: 26046; Supplier 1: Digi-Key; Supplier Part Number 1: 732-9564-3-ND; ComponentLink1Description: Datasheet; ComponentLink1URL: http://katalog.we-online.de/pbs/datasheet/860160575026.pdf; ComponentLink2Description: Digi-Key Listing; ComponentLink2URL: https://www.digikey.com/product-detail/en/wurth-electronics-inc/860160575026/732-9564-3-ND/5727794; Tolerance: 20%; Price: 0.6123; Device Package: Radial, Can, 10mm
footprint CAP AL TH D10 L5 H30
pins: 1, 2

## 860160580037
designator C?, comment 1800uF  (value not drawn)
CAP 1800 UF 20% 35 V; Part Number: 860160580037; Manufacturer: Wurth Electronics Inc; TemperatureRange: -55C ~ 105C; Voltage: 35V; Type: Polar; Ripple Current: 3.012A @ 100kHz; Impedance: 45 mOhm; Value: 1800uF; PartId: 27189; Supplier 1: Digi-Key; Supplier Part Number 1: 732-9575-3-ND; ComponentLink1Description: Datasheet; ComponentLink1URL: http://katalog.we-online.de/pbs/datasheet/860160580037.pdf; ComponentLink2Description: Digi-Key Listing; ComponentLink2URL: https://www.digikey.com/product-detail/en/wurth-electronics-inc/860160580037/732-9575-3-ND/5727805; Tolerance: 20%; Price: 2.0217; Device Package: Radial, Can, 16mm
footprint CAP AL TH D16 L7.5 H33.5
pins: 1, 2

## 860160580038
designator C?, comment 2200uF  (value not drawn)
CAP 2200 UF 20% 35 V; Part Number: 860160580038; Manufacturer: Wurth Electronics Inc; TemperatureRange: -55C ~ 105C; Voltage: 35V; Type: Polar; Ripple Current: 3.228A @ 100kHz; Impedance: 36 mOhm; Value: 2200uF; PartId: 27228; Supplier 1: Digi-Key; Supplier Part Number 1: 732-9576-3-ND; ComponentLink1Description: Datasheet; ComponentLink1URL: http://katalog.we-online.de/pbs/datasheet/860160580038.pdf; ComponentLink2Description: Digi-Key Listing; ComponentLink2URL: https://www.digikey.com/product-detail/en/wurth-electronics-inc/860160580038/732-9576-3-ND/5727806; Tolerance: 20%; Price: 2.4249; Device Package: Radial, Can, 16mm
footprint CAP AL TH D16 L7.5 H33.5
pins: 1, 2

## 860160680034
designator C?, comment 1000uF  (value not drawn)
CAP 1000 UF 20% 50 V; Part Number: 860160680034; Manufacturer: Wurth Electronics Inc; TemperatureRange: -55C ~ 105C; Voltage: 50V; Type: Polar; Ripple Current: 2.676A @ 100kHz; Impedance: 50 mOhm; Value: 1000uF; PartId: 26692; Supplier 1: Digi-Key; Supplier Part Number 1: 732-9612-3-ND; ComponentLink1Description: Datasheet; ComponentLink1URL: http://katalog.we-online.de/pbs/datasheet/860160680034.pdf; ComponentLink2Description: Digi-Key Listing; ComponentLink2URL: https://www.digikey.com/product-detail/en/wurth-electronics-inc/860160680034/732-9612-3-ND/5727842; Tolerance: 20%; Price: 1.8461; Device Package: Radial, Can, 16mm
footprint CAP AL TH D16 L7.5 H26.5
pins: 1, 2

## 860160680035
designator C?, comment 1200uF  (value not drawn)
CAP 1200 UF 20% 50 V; Part Number: 860160680035; Manufacturer: Wurth Electronics Inc; TemperatureRange: -55C ~ 105C; Voltage: 50V; Type: Polar; Ripple Current: 2.952A @ 100kHz; Impedance: 45 mOhm; Value: 1200uF; PartId: 27258; Supplier 1: Digi-Key; Supplier Part Number 1: 732-9613-3-ND; ComponentLink1Description: Datasheet; ComponentLink1URL: http://katalog.we-online.de/pbs/datasheet/860160680035.pdf; ComponentLink2Description: Digi-Key Listing; ComponentLink2URL: https://www.digikey.com/product-detail/en/wurth-electronics-inc/860160680035/732-9613-3-ND/5727843; Tolerance: 20%; Price: 2.7964; Device Package: Radial, Can, 16mm
footprint CAP AL TH D16 L7.5 H33.5
pins: 1, 2

## 860240275007
designator C?, comment 470uF  (value not drawn)
CAP 470 UF 20% 10 V; Part Number: 860240275007; Manufacturer: Wurth Electronics Inc; TemperatureRange: -40C ~ 105C; Voltage: 10V; Type: Polar; Ripple Current: 540mA @ 100kHz; Value: 470uF; PartId: 24790; Supplier 1: Digi-Key; Supplier Part Number 1: 732-9312-1-ND; ComponentLink1Description: Datasheet; ComponentLink1URL: http://katalog.we-online.de/pbs/datasheet/860240275007.pdf; ComponentLink2Description: Digi-Key Listing; ComponentLink2URL: https://www.digikey.com/product-detail/en/wurth-electronics-inc/860240275007/732-9312-1-ND/5729250; Tolerance: 20%; Price: 0.44; Device Package: Radial, Can, 10mm
footprint CAP AL TH D10 L5 H14.5
pins: 1, 2

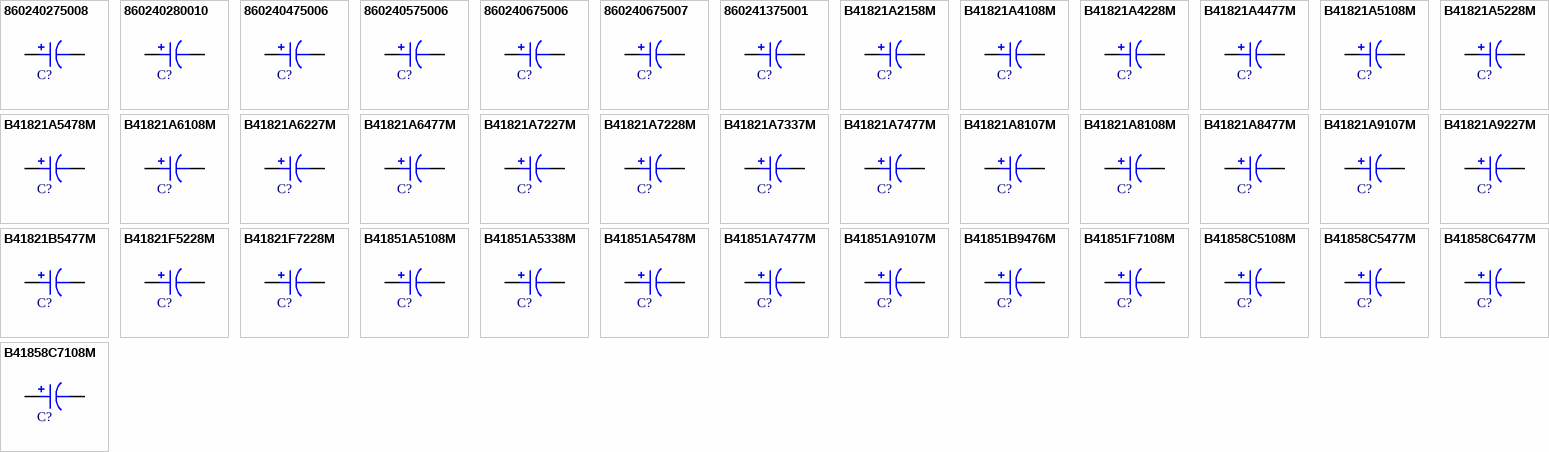
[diagram p17: symbols 860240275008 to B41858C7108M]

## 860240275008
designator C?, comment 1000uF  (value not drawn)
CAP 1000 UF 20% 10 V; Part Number: 860240275008; Manufacturer: Wurth Electronics Inc; TemperatureRange: -40C ~ 105C; Voltage: 10V; Type: Polar; Ripple Current: 900mA @ 100kHz; Value: 1000uF; PartId: 25141; Supplier 1: Digi-Key; Supplier Part Number 1: 732-9313-3-ND; ComponentLink1Description: Datasheet; ComponentLink1URL: http://katalog.we-online.de/pbs/datasheet/860240275008.pdf; ComponentLink2Description: Digi-Key Listing; ComponentLink2URL: https://www.digikey.com/product-detail/en/wurth-electronics-inc/860240275008/732-9313-3-ND/5727543; Tolerance: 20%; Price: 0.388; Device Package: Radial, Can, 10mm
footprint CAP AL TH D10 L5 H17.5
pins: 1, 2

## 860240280010
designator C?, comment 3300uF  (value not drawn)
CAP 3300 UF 20% 10 V; Part Number: 860240280010; Manufacturer: Wurth Electronics Inc; TemperatureRange: -40C ~ 105C; Voltage: 10V; Type: Polar; Ripple Current: 1.9A @ 100kHz; Value: 3300uF; PartId: 26654; Supplier 1: Digi-Key; Supplier Part Number 1: 732-9315-3-ND; ComponentLink1Description: Datasheet; ComponentLink1URL: http://katalog.we-online.de/pbs/datasheet/860240280010.pdf; ComponentLink2Description: Digi-Key Listing; ComponentLink2URL: https://www.digikey.com/product-detail/en/wurth-electronics-inc/860240280010/732-9315-3-ND/5727545; Tolerance: 20%; Price: 1.5753; Device Package: Radial, Can, 16mm
footprint CAP AL TH D16 L7.5 H26.5
pins: 1, 2

## 860240475006
designator C?, comment 150uF  (value not drawn)
CAP 150 UF 20% 25 V; Part Number: 860240475006; Manufacturer: Wurth Electronics Inc; TemperatureRange: -40C ~ 105C; Voltage: 25V; Type: Polar; Ripple Current: 460mA @ 100kHz; Value: 150uF; PartId: 24955; Supplier 1: Digi-Key; Supplier Part Number 1: 732-9282-1-ND; ComponentLink1Description: Datasheet; ComponentLink1URL: http://katalog.we-online.de/pbs/datasheet/860240475006.pdf; ComponentLink2Description: Digi-Key Listing; ComponentLink2URL: https://www.digikey.com/product-detail/en/wurth-electronics-inc/860240475006/732-9282-1-ND/5729220; Tolerance: 20%; Price: 0.52; Device Package: Radial, Can, 10mm
footprint CAP AL TH D10 L5 H14.5
pins: 1, 2